# Altium schematic symbol library EL7212.SchLib: 1 symbol
Pins are listed as number, name and electrical type; pins without a type are passive.

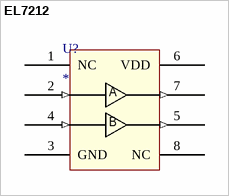
[diagram p0: symbol EL7212]

## EL7212
designator U?
pins: 1 NC, 2 INA (in), 3 GND (power), 4 INB (in), 5 OUTB (out), 6 VDD (power), 7 OUTA (out), 8 NC
text: A; B